# Altium footprint library CR-10 Motherboard.PcbLib: 29 footprints (part 2 of 2)
Each footprint in its own frame and in the unit in brackets; x right, y up, seen from the top. Pads: shape width x height; smd on the part's side, far side on the other; paste and mask are expansions set on the pad; w line width, h text height; cw(c..) or ccw(c..) is an arc to the next point about the centre after c.
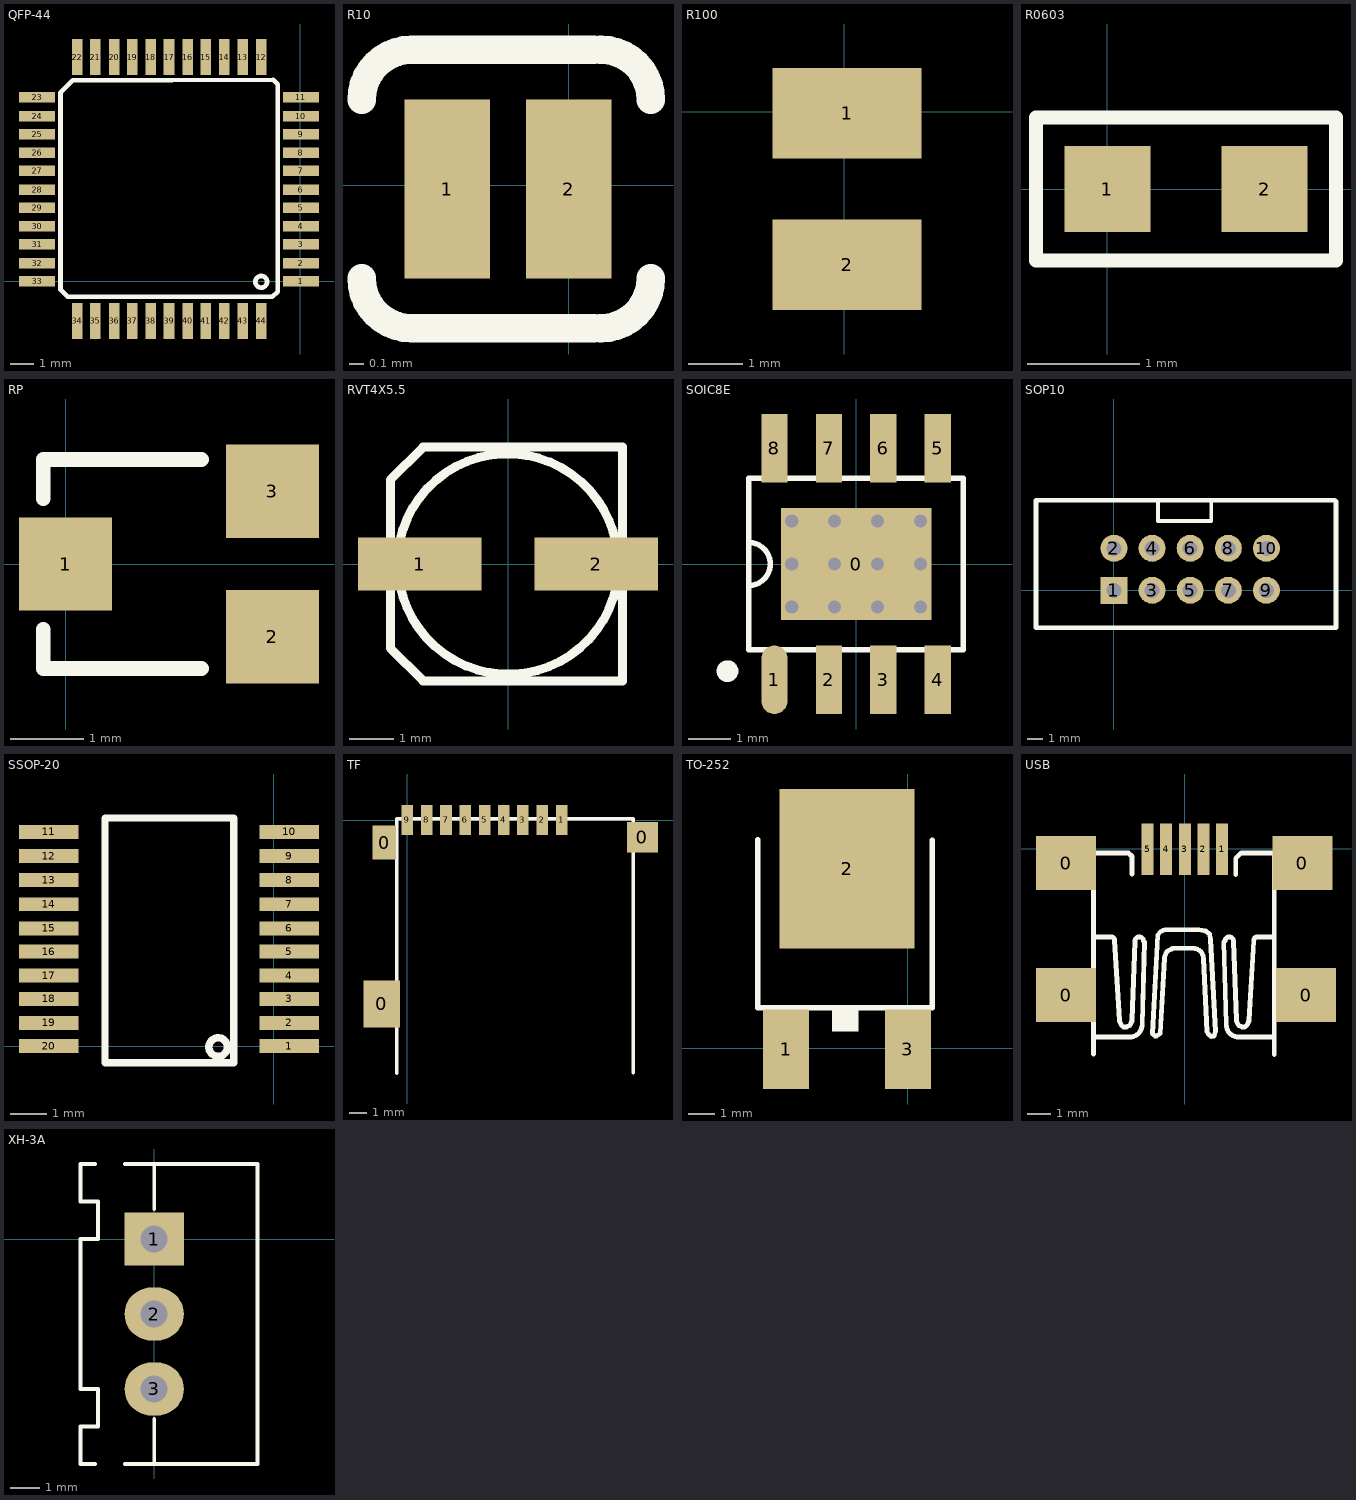
[diagram p1: the footprints below, top view; thin cyan lines are the x and y axes]

## QFP-44 [mil]
pads (44):
  rect 62x18 smd: 1(1,0) 2(1,31) 3(1,63) 4(1,94) 5(1,126) 6(1,157) 7(1,189) 8(1,220) 9(1,252) 10(1,283) 11(1,315) 23(-451,315) 24(-451,283) 25(-451,252) 26(-451,220) 27(-451,189) 28(-451,157) 29(-451,126) 30(-451,94) 31(-451,63) 32(-451,31) 33(-451,0)
  rect 18x62 smd: 12(-67,384) 13(-99,384) 14(-130,384) 15(-162,384) 16(-193,384) 17(-225,384) 18(-256,384) 19(-288,384) 20(-319,384) 21(-351,384) 22(-382,384) 34(-382,-68) 35(-351,-68) 36(-319,-68) 37(-288,-68) 38(-256,-68) 39(-225,-68) 40(-193,-68) 41(-162,-68) 42(-130,-68) 43(-99,-68) 44(-67,-68)
Top Overlay:
  circle w8: c-67,-1 r10
  lines w8: -411,323 -410.83,-14.85 -398.81,-26.87 -48.08,-26.87 -38.89,-17.68 -38.89,337.29 -46.67,345.07 -390,344 -411,323

## R10 [mil]
pads (2):
  rect 24x50 smd: 1(-34,-1) 2(0,-1)
Top Overlay:
  lines w8: -58,-26 ccw(c-44,-26) -44,-40 7,-40 ; -58,24 cw(c-44,24) -44,38 7,38 ; 9,-40 ccw(c9,-26) 23,-26 ; 9,38 cw(c9,24) 23,24

## R100 [mil]
pads (2):
  rect 108x66 smd: 1(2,-1) 2(2,-111)

## R0603 [mil]
height 43.31
pads (2):
  rect 30x30 smd: 1(0,0) 2(55,0)
Top Overlay:
  lines w5: -25,-25 -25,25 80,25 80,-25 -25,-25

## RP [mil]
pads (3):
  rect 50x50 smd: 1(0,0) 2(111,-39) 3(111,39)
Top Overlay:
  lines w8: -12,-35 -12,-56 73,-56 ; -12,35 -12,56 73,56

## RVT4X5.5 [mm] "22uF  35V"
pads (2):
  rect 2.8x1.2 smd: 1(-2,0) 2(2,0)
Top Overlay:
  lines w0.203: -2.387,0.768 cw(c-0.008,0) 2.384,0.728 ; -2.385,-0.723 cw(c0,0.025) -2.385,0.773 ; -2.384,-0.728 ccw(c0.008,0) 2.387,-0.768 ; 2.385,-0.773 ccw(c0,-0.025) 2.385,0.723 ; -2.665,-1.907 -2.665,-1.227 -2.665,0.973 -2.665,1.907 -1.922,2.65 2.6,2.65 2.6,-2.65 -1.922,-2.65 -2.665,-1.907

## SOIC8E [mm]
pads (9):
  rect 3.51x2.62 smd: 0(0,0)
  oval 0.61x1.6 smd: 1(-1.905,-2.7)
  rect 0.61x1.6 smd: 2(-0.635,-2.7) 3(0.635,-2.7) 4(1.905,-2.7) 5(1.905,2.7) 6(0.635,2.7) 7(-0.635,2.7) 8(-1.905,2.7)
via 1.5,1 diameter 0.508 hole 0.305
via 0.5,1 diameter 0.508 hole 0.305
via -0.5,1 diameter 0.508 hole 0.305
via -1.5,1 diameter 0.508 hole 0.305
via -1.5,-1 diameter 0.508 hole 0.305
via -0.5,-1 diameter 0.508 hole 0.305
via 0.5,-1 diameter 0.508 hole 0.305
via 1.5,-1 diameter 0.508 hole 0.305
via 1.5,0 diameter 0.508 hole 0.305
via 0.5,0 diameter 0.508 hole 0.305
via -1.5,0 diameter 0.508 hole 0.305
via -0.5,0 diameter 0.508 hole 0.305
Top Overlay:
  circle w0.254: c-3,-2.5 r0.127
  lines w0.127: -2.5,-0.5 ccw(c-2.5,0) -2.5,0.5 ; -2.5,-2 2.5,-2 2.5,2 -2.5,2 -2.5,-2

## SOP10 [mm]
pads (10):
  rect 1.8x1.8 hole 1: 1(0,0)
  round 1.8 hole 1: 2(0,2.8) 3(2.54,0) 4(2.54,2.8) 5(5.08,0) 6(5.08,2.8) 7(7.62,0) 8(7.62,2.8) 9(10.16,0) 10(10.16,2.8)
Top Overlay:
  lines w0.254: 2.928,6 2.928,4.612 6.484,4.612 6.484,6
  lines w0.305: 6.992,6 14.73,6 ; 7.246,-2.5 14.8,-2.5 14.8,2.58 14.8,5.93 ; 7.5,-2.5 -5.2,-2.5 -5.2,2.58 -5.2,6 7.5,6

## SSOP-20 [mil]
pads (20):
  rect 64x15 smd: 1(16.75,0) 2(16.75,25) 3(16.75,51) 4(16.75,76) 5(16.75,102) 6(16.75,127) 7(16.75,153) 8(16.75,179) 9(16.75,205) 10(16.75,231) 11(-242.75,231) 12(-242.75,205) 13(-242.75,179) 14(-242.75,153) 15(-242.75,127) 16(-242.75,102) 17(-242.75,76) 18(-242.75,51) 19(-242.75,25) 20(-242.75,0)
Top Overlay:
  circle w8: c-60,-1 r10
  lines w8: -182,-18 -182,246 -43,246 -43,-18 -182,-18

## TF [mil]
pads (12):
  rect 82x106 smd: 0(-58,-413)
  rect 52x76 smd: 0(-52,-50)
  rect 70x68 smd: 0(529,-38)
  rect 26x68 smd: 1(347,1) 2(304,1) 3(260,1) 4(217,1) 5(174,1) 6(130,1) 7(87,1) 8(44,1) 9(0,1)
Top Overlay:
  lines w8: -24,-569 -24,4 508,4 508,-568

## TO-252 [mil]
pads (3):
  rect 68x118 smd: 1(-180,-1) 3(0,-1)
  rect 200x236 smd: 2(-90,266)
Top Overlay:
  rectangle: -112,25 -73,59
  lines w8: -222,309 -222,60 36,60 36,308

## USB [mil]
pads (9):
  rect 100x90 smd: 0(-198,-244) 0(-198,-24) 0(196,-24) 0(202,-244)
  rect 20x86 smd: 1(62,-1) 2(31,-1) 3(0,-1) 4(-31,-1) 5(-62,-1)
Top Overlay:
  lines w8: -152,-342 -152,-7 -94,-7 -88,-13 -88,-42 ; -149,-314 -92,-314 ccw(c-92,-293) -71,-293 -67,-155 ; -148,-147 -123,-147 cw(c-123,-153) -117,-153 -109,-286 -106,-294 -102,-297 -97,-297 -91,-294 -88,-286 -83,-154 cw(c-76,-154) -69,-154 ; -21,-167 -28,-170 -31,-173 -34,-182 -41,-308 -47,-312 -50,-312 -54,-308 -45,-144 -41,-139 -36,-136 -33,-135 24,-135 35,-137 41,-142 43,-151 51,-305 49,-312 44,-313 40,-310 37,-305 31,-183 ccw(c14,-183) 14,-166 -21,-166 ; 65,-155 69,-293 ccw(c90,-293) 90,-314 147,-314 ; 67,-154 cw(c74,-154) 81,-154 86,-286 89,-294 95,-297 100,-297 104,-294 107,-286 115,-153 cw(c121,-153) 121,-147 146,-147 ; 85,-43 85,-16 94,-7 149,-7 149,-343

## XH-3A [mm]
pads (3):
  rect 2x1.8 hole 0.914: 1(0,0)
  oval 2x1.8 hole 0.914: 2(0,-2.54) 3(0,-5.08)
Top Overlay:
  lines w0.127: -2,-7.62 -2.5,-7.62 -2.5,-6.35 -1.905,-6.35 -1.905,-5.08 -2.5,-5.08 -2.5,0 -1.905,0 -1.905,1.27 -2.5,1.27 -2.5,2.54 -2,2.54 ; -1,-7.62 3.5,-7.62 3.5,2.54 -1,2.54 ; 0,-7.62 0,-6.096 ; 0,1.016 0,2.54
3D body "hx254-3tl_y.stp": height 7, standoff -3, extent -2.495,-7.565 3.505,2.435